# Altium footprint library 117348390.PcbLib: 1 footprints
Each footprint in its own frame and in the unit in brackets; x right, y up, seen from the top. Pads: shape width x height; smd on the part's side, far side on the other; paste and mask are expansions set on the pad; w line width, h text height; cw(c..) or ccw(c..) is an arc to the next point about the centre after c.
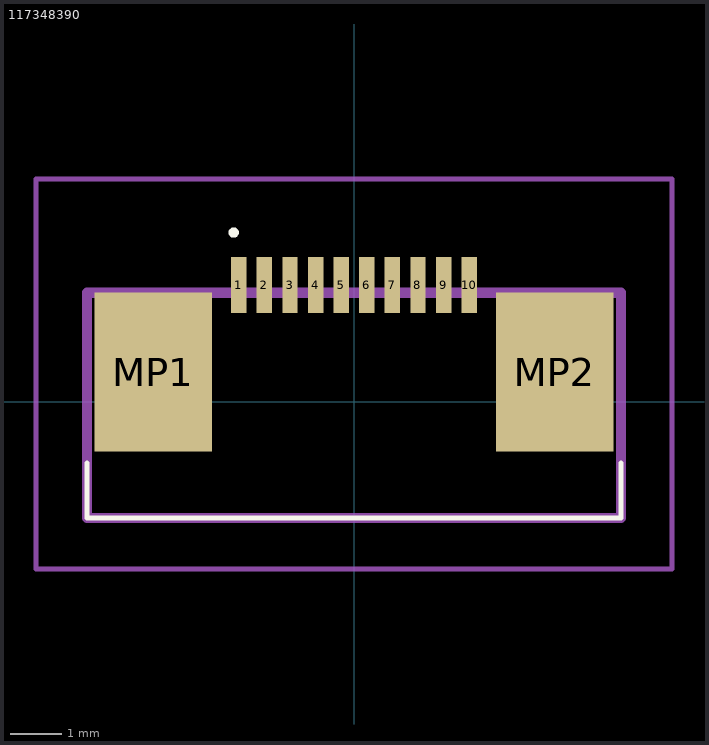
[diagram p0: the footprint, top view; thin cyan lines are the x and y axes]

## 117348390 [mm]
pads (12):
  rect 0.3x1.1 smd: 1(-2.25,2.275) 2(-1.75,2.275) 3(-1.25,2.275) 4(-0.75,2.275) 5(-0.25,2.275) 6(0.25,2.275) 7(0.75,2.275) 8(1.25,2.275) 9(1.75,2.275) 10(2.25,2.275)
  rect 2.3x3.1 smd: MP1(-3.92,0.575) MP2(3.92,0.575)
Top Overlay:
  lines w0.1: -5.215,-1.2 -5.215,-2.275 5.215,-2.275 5.215,-1.2 ; -2.4,3.3 -2.4,3.3 ; -2.4,3.3 ccw(c-2.35,3.3) -2.3,3.3 ; -2.4,3.3 cw(c-2.35,3.3) -2.3,3.3 ; -2.3,3.3 -2.3,3.3
Mechanical 15:
  lines w0.2: -5.215,-2.275 5.215,-2.275 5.215,2.125 -5.215,2.125 -5.215,-2.275
Mechanical 20:
  lines w0.1: -6.215,-3.275 6.215,-3.275 6.215,4.35 -6.215,4.35 -6.215,-3.275